# Altium footprint library RASPBERRY_PI_PICO.PcbLib: 2 footprints
Each footprint in its own frame and in the unit in brackets; x right, y up, seen from the top. Pads: shape width x height; smd on the part's side, far side on the other; paste and mask are expansions set on the pad; w line width, h text height; cw(c..) or ccw(c..) is an arc to the next point about the centre after c.
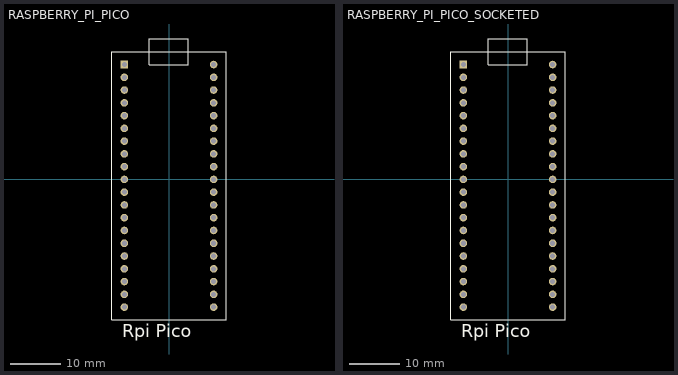
[diagram p0: the footprints below, top view; thin cyan lines are the x and y axes]

## RASPBERRY_PI_PICO [mm]
pads (40):
  round 1.508 hole 1: 3V3(8.89,12.7) 3V3_EN(8.89,15.24) ADC_VREF(8.89,10.16) AGND(8.89,5.08) GND(8.89,17.78) GND2(8.89,-7.62) GND3(8.89,-20.32) GND4(-8.89,17.78) GND5(-8.89,5.08) GND6(-8.89,-7.62) GND7(-8.89,-20.32) GP1(-8.89,20.32) GP2(-8.89,15.24) GP3(-8.89,12.7) GP4(-8.89,10.16) GP5(-8.89,7.62) GP6(-8.89,2.54) GP7(-8.89,0) GP8(-8.89,-2.54) GP9(-8.89,-5.08) GP10(-8.89,-10.16) GP11(-8.89,-12.7) GP12(-8.89,-15.24) GP13(-8.89,-17.78) GP14(-8.89,-22.86) GP15(-8.89,-25.4) GP16(8.89,-25.4) GP17(8.89,-22.86) GP18(8.89,-17.78) GP19(8.89,-15.24) GP20(8.89,-12.7) GP21(8.89,-10.16) GP22(8.89,-5.08) GP26_A0(8.89,0) GP27_A1(8.89,2.54) GP28_A2(8.89,7.62) RUN(8.89,-2.54) VBUS(8.89,22.86) VSYS(8.89,20.32)
  rect 1.508x1.508 hole 1: GP0(-8.89,22.86)
Top Overlay:
  lines w0.152: -11.43,-27.94 11.43,-27.94 11.43,25.4 -11.43,25.4 -11.43,-27.94 ; -3.893,22.86 3.81,22.86 3.81,27.94 -3.893,27.94 -3.893,22.86
  text "Rpi Pico" at -9.271,-31.369 h2.54
3D body "raspberry pi pico with contacts.step": height 3.51, standoff -8.49, extent -10.5,-26.797 10.5,25.203

## RASPBERRY_PI_PICO_SOCKETED [mm]
pads (40):
  round 1.508 hole 1: 3V3(8.89,12.7) 3V3_EN(8.89,15.24) ADC_VREF(8.89,10.16) AGND(8.89,5.08) GND(8.89,17.78) GND2(8.89,-7.62) GND3(8.89,-20.32) GND4(-8.89,17.78) GND5(-8.89,5.08) GND6(-8.89,-7.62) GND7(-8.89,-20.32) GP1(-8.89,20.32) GP2(-8.89,15.24) GP3(-8.89,12.7) GP4(-8.89,10.16) GP5(-8.89,7.62) GP6(-8.89,2.54) GP7(-8.89,0) GP8(-8.89,-2.54) GP9(-8.89,-5.08) GP10(-8.89,-10.16) GP11(-8.89,-12.7) GP12(-8.89,-15.24) GP13(-8.89,-17.78) GP14(-8.89,-22.86) GP15(-8.89,-25.4) GP16(8.89,-25.4) GP17(8.89,-22.86) GP18(8.89,-17.78) GP19(8.89,-15.24) GP20(8.89,-12.7) GP21(8.89,-10.16) GP22(8.89,-5.08) GP26_A0(8.89,0) GP27_A1(8.89,2.54) GP28_A2(8.89,7.62) RUN(8.89,-2.54) VBUS(8.89,22.86) VSYS(8.89,20.32)
  rect 1.508x1.508 hole 1: GP0(-8.89,22.86)
Top Overlay:
  lines w0.152: -11.43,-27.94 11.43,-27.94 11.43,25.4 -11.43,25.4 -11.43,-27.94 ; -3.893,22.86 3.81,22.86 3.81,27.94 -3.893,27.94 -3.893,22.86
  text "Rpi Pico" at -9.271,-31.369 h2.54
3D body "20-Pin Header - Female - 2.54mm.step": height 5, standoff -3, extent -10.14,-26.92 -7.64,24.38
3D body "20-Pin Header - Female - 2.54mm.step": height 5, standoff -3, extent 7.64,-26.92 10.14,24.38
3D body "raspberry pi pico with contacts.step": height 11.13, standoff -0.87, extent -10.5,-26.797 10.5,25.203